# EAGLE library part VFVX100 (library NewSDR)
VCXO Low Noise to 1.0GHz Valpey Fisher 9x14mm SMD, PECL/LVPECL
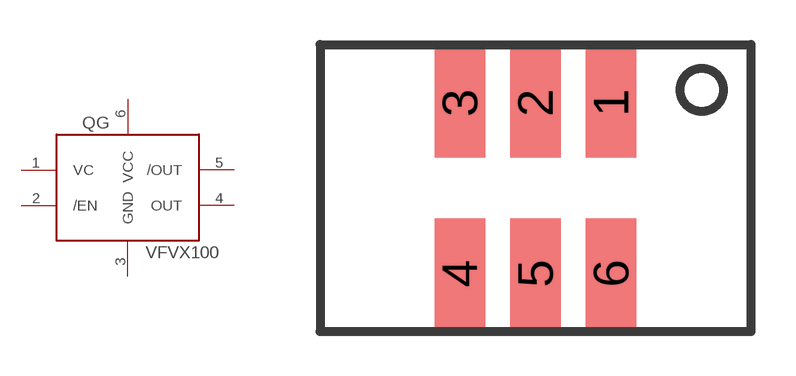
[diagram p39: symbol with the pads of VFVX100; footprint VFVX100]

Designator prefix QG

## VFVX100  [VFVX100]
1  VC  pas
2  /EN  in
3  GND  pwr
4  OUT  out
5  /OUT  out
6  VCC  pwr

## Footprint VFVX100 (pad centres in mm)
VCXO 9x14mm SMD
smd 1.702 x 3.696: 1 2.54,2.87; 2 0,2.87; 3 -2.54,2.87; 4 -2.54,-2.87; 5 0,-2.87; 6 2.54,-2.87